# Altium footprint library WR-FPC_1.00mm.PcbLib: 115 footprints (part 4 of 8)
Each footprint in its own frame and in the unit in brackets; x right, y up, seen from the top. Pads: shape width x height; smd on the part's side, far side on the other; paste and mask are expansions set on the pad; w line width, h text height; cw(c..) or ccw(c..) is an arc to the next point about the centre after c.
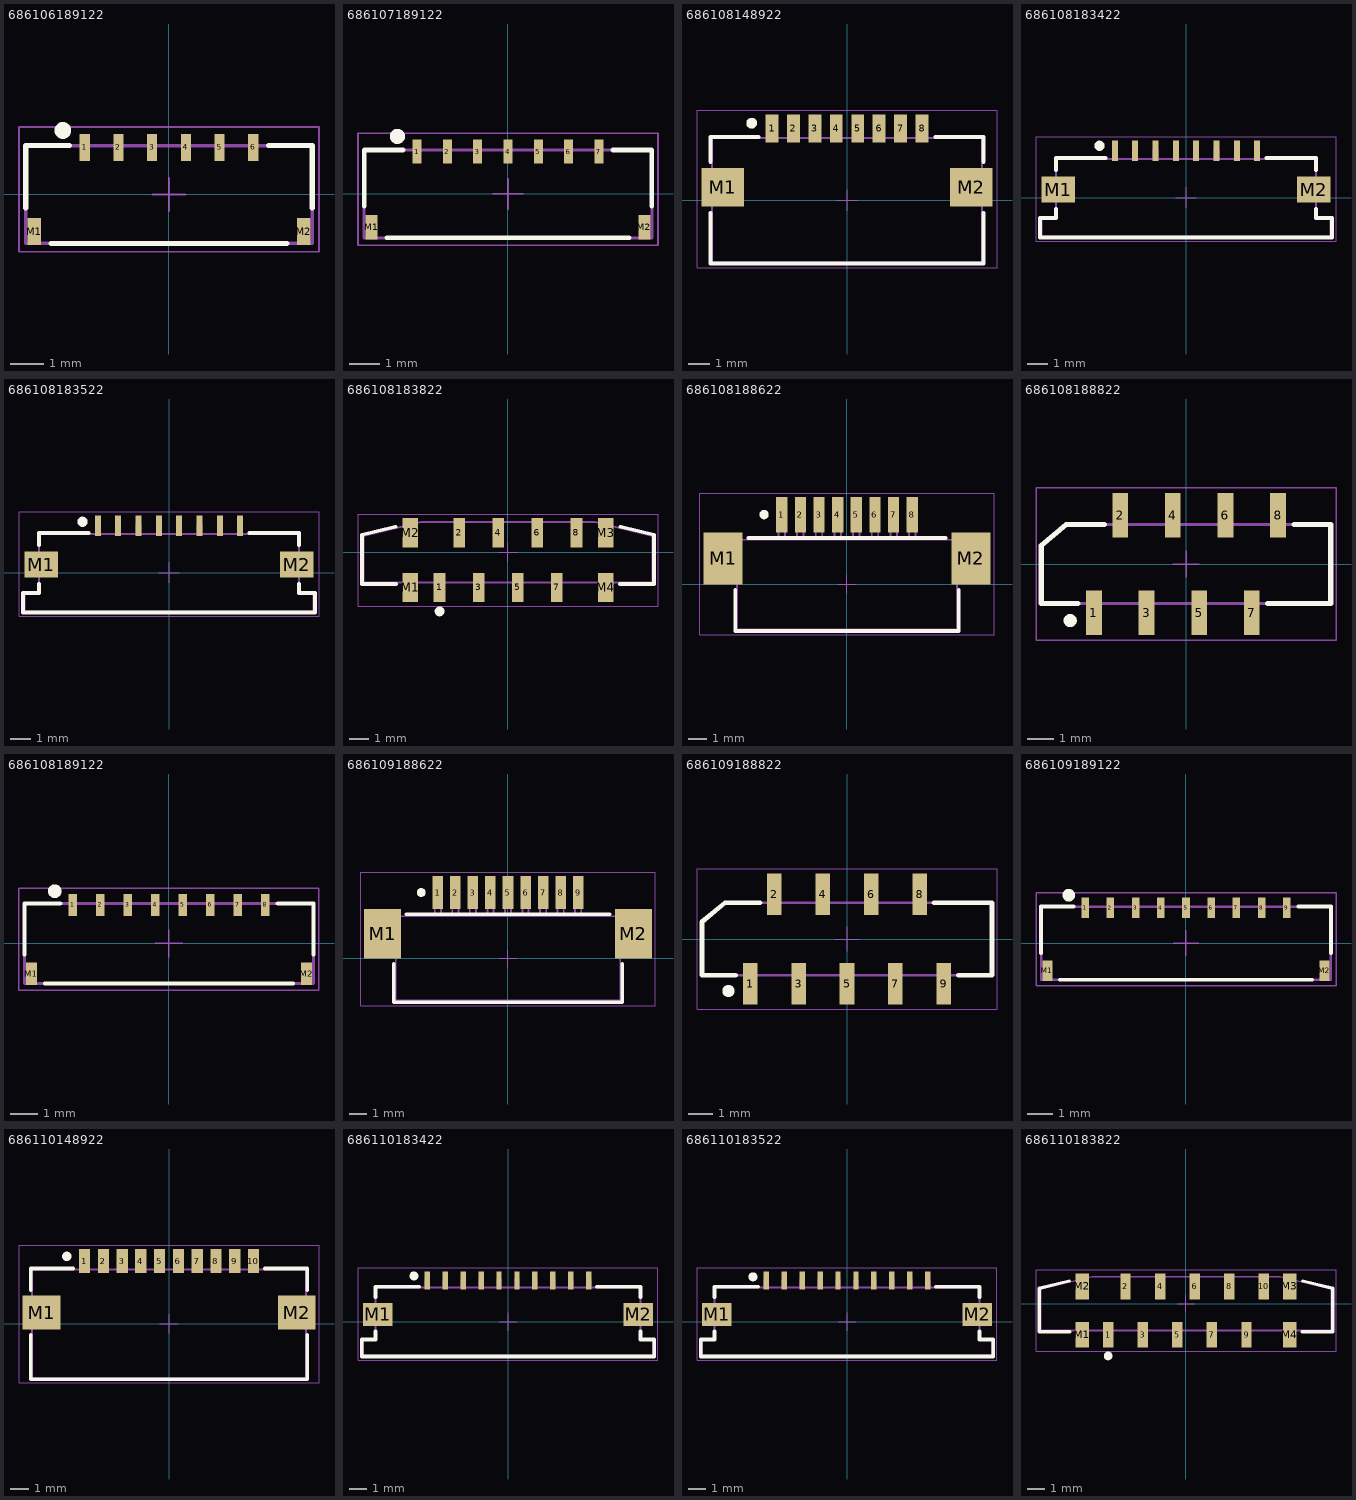
[diagram p3: the footprints below, top view; thin cyan lines are the x and y axes]

## 686106189122 [mm] "SMT ZIF Horizontal Back Locking 1mm, 6p"
height 0.96
pads (8):
  rect 0.3x0.8 smd: 1(-2.5,1.4) 2(-1.5,1.4) 3(-0.5,1.4) 4(0.5,1.4) 5(1.5,1.4) 6(2.5,1.4)
  rect 0.4x0.8 smd: M1(-4,-1.1) M2(4,-1.1)
Top Overlay:
  circle w0.25: c-3.15,1.9 r0.125
  lines w0.15: -4.25,-0.4 -4.25,1.45 -2.95,1.45 ; -3.5,-1.45 3.5,-1.45 ; 2.95,1.45 4.25,1.45 4.25,-0.4
Top Designator:
  text ".Designator" at -7.498,-0.5 h1.5
Top Component Outline:
  lines w0.1: -4.25,-1.45 -4.25,1.45 4.25,1.45 4.25,-1.45 -4.25,-1.45
Top 3D Body:
  lines w0.1: -4.25,-1.45 4.25,-1.45 4.25,1.45 -4.25,1.45 -4.25,-1.45
Top Courtyard:
  lines w0.05: -0.5,0 0.5,0 ; 0,-0.5 0,0.5 ; -4.45,-1.7 4.45,-1.7 4.45,2 -4.45,2 -4.45,-1.7
3D body "686106189122.stp": height 1.79, standoff 0.01, extent -4.25,-1.45 4.25,1.652

## 686107189122 [mm] "SMT ZIF Horizontal Back Locking 1mm, 7p"
height 0.96
pads (9):
  rect 0.3x0.8 smd: 1(-3,1.4) 2(-2,1.4) 3(-1,1.4) 4(0,1.4) 5(1,1.4) 6(2,1.4) 7(3,1.4)
  rect 0.4x0.8 smd: M1(-4.5,-1.1) M2(4.5,-1.1)
Top Overlay:
  circle w0.25: c-3.65,1.9 r0.125
  lines w0.15: -4.75,-0.4 -4.75,1.45 -3.45,1.45 ; -4,-1.45 4,-1.45 ; 3.45,1.45 4.75,1.45 4.75,-0.4
Top Designator:
  text ".Designator" at -7.498,-0.5 h1.5
Top Component Outline:
  lines w0.1: -4.75,-1.45 4.75,-1.45 4.75,1.45 -4.75,1.45 -4.75,-1.45
Top 3D Body:
  lines w0.1: -4.75,-1.45 -4.75,1.45 4.75,1.45 4.75,-1.45 -4.75,-1.45
Top Courtyard:
  lines w0.05: -0.5,0 0.5,0 ; 0,-0.5 0,0.5 ; -4.95,-1.7 -4.95,2 4.95,2 4.95,-1.7 -4.95,-1.7
3D body "686107189122.stp": height 1.79, standoff 0.01, extent -4.75,-1.45 4.75,1.652

## 686108148922 [mm] "ZIF Connectors, Horizontal, Bottom Contact Hinge Type, pitch 1mm, 8p"
height 2.3
pads (10):
  rect 0.6x1.3 smd: 1(-3.5,3.35) 2(-2.5,3.35) 3(-1.5,3.35) 4(-0.5,3.35) 5(0.5,3.35) 6(1.5,3.35) 7(2.5,3.35) 8(3.5,3.35)
  rect 2x1.8 smd: M1(-5.8,0.6) M2(5.8,0.6)
Top Overlay:
  circle w0.25: c-4.45,3.6 r0.125
  lines w0.2: -6.375,-0.6 -6.375,-2.95 6.375,-2.95 6.375,-0.6 ; -6.375,1.8 -6.375,2.95 -4.125,2.95 ; 4.125,2.95 6.375,2.95 6.375,1.8
Top Designator:
  text ".Designator" at -7.498,-0.5 h1.5
Top Component Outline:
  lines w0.1: -3.6,2.9 -3.6,3.6 -3.4,3.6 -3.4,2.9 ; -2.6,2.9 -2.6,3.6 -2.4,3.6 -2.4,2.9 ; -1.6,2.9 -1.6,3.6 -1.4,3.6 -1.4,2.9 ; -0.6,2.9 -0.6,3.6 -0.4,3.6 -0.4,2.9 ; 0.4,2.9 0.4,3.6 0.6,3.6 0.6,2.9 ; 1.4,2.9 1.4,3.6 1.6,3.6 1.6,2.9 ; 2.4,2.9 2.4,3.6 2.6,3.6 2.6,2.9 ; 3.4,2.9 3.4,3.6 3.6,3.6 3.6,2.9 ; -6.3,-2.9 -6.3,2.9 6.3,2.9 6.3,-2.9 -6.3,-2.9
Top 3D Body:
  lines w0.1: -3.6,2.9 -3.6,3.6 -3.4,3.6 -3.4,2.9 ; -2.6,2.9 -2.6,3.6 -2.4,3.6 -2.4,2.9 ; -1.6,2.9 -1.6,3.6 -1.4,3.6 -1.4,2.9 ; -0.6,2.9 -0.6,3.6 -0.4,3.6 -0.4,2.9 ; 0.4,2.9 0.4,3.6 0.6,3.6 0.6,2.9 ; 1.4,2.9 1.4,3.6 1.6,3.6 1.6,2.9 ; 2.4,2.9 2.4,3.6 2.6,3.6 2.6,2.9 ; 3.4,2.9 3.4,3.6 3.6,3.6 3.6,2.9 ; -6.3,-2.9 6.3,-2.9 6.3,2.9 -6.3,2.9 -6.3,-2.9
Top Courtyard:
  lines w0.05: -0.5,0 0.5,0 ; 0,-0.5 0,0.5 ; -7,-3.15 -7,4.2 7,4.2 7,-3.15 -7,-3.15
3D body "686108148922.stp": height 2.27, standoff 0.02, extent -6.3,-2.9 6.3,3.6

## 686108183422 [mm] "ZIF Connectors, Horizontal, Top Contact Low Profile, pitch 1mm, 8p"
height 1.3
pads (10):
  rect 0.3x1 smd: 1(-3.5,2.3) 2(-2.5,2.3) 3(-1.5,2.3) 4(-0.5,2.3) 5(0.5,2.3) 6(1.5,2.3) 7(2.5,2.3) 8(3.5,2.3)
  rect 1.65x1.3 smd: M1(-6.275,0.4) M2(6.275,0.4)
Top Overlay:
  circle w0.25: c-4.25,2.55 r0.125
  lines w0.2: -6.4,-0.55 -6.4,-1 -7.175,-1 -7.175,-1.95 7.175,-1.95 7.175,-1 6.4,-1 6.4,-0.55 ; -6.4,1.35 -6.4,1.95 -3.95,1.95 ; 3.95,1.95 6.4,1.95 6.4,1.35
Top Designator:
  text ".Designator" at -7.498,-0.5 h1.5
Top Component Outline:
  lines w0.1: -3.6,1.9 -3.6,2.35 -3.4,2.35 -3.4,1.9 ; -2.6,1.9 -2.6,2.35 -2.4,2.35 -2.4,1.9 ; -1.6,1.9 -1.6,2.35 -1.4,2.35 -1.4,1.9 ; -0.6,1.9 -0.6,2.35 -0.4,2.35 -0.4,1.9 ; 0.4,1.9 0.4,2.35 0.6,2.35 0.6,1.9 ; 1.4,1.9 1.4,2.35 1.6,2.35 1.6,1.9 ; 2.4,1.9 2.4,2.35 2.6,2.35 2.6,1.9 ; 3.4,1.9 3.4,2.35 3.6,2.35 3.6,1.9 ; -7.1,-1 -6.4,-1 -6.4,1.9 6.4,1.9 6.4,-1 7.1,-1 7.1,-1.9 -7.1,-1.9 -7.1,-1 ; -7.1,-1 -7.1,-1
Top 3D Body:
  lines w0.1: -3.6,1.9 -3.6,2.35 -3.4,2.35 -3.4,1.9 ; -2.6,1.9 -2.6,2.35 -2.4,2.35 -2.4,1.9 ; -1.6,1.9 -1.6,2.35 -1.4,2.35 -1.4,1.9 ; -0.6,1.9 -0.6,2.35 -0.4,2.35 -0.4,1.9 ; 0.4,1.9 0.4,2.35 0.6,2.35 0.6,1.9 ; 1.4,1.9 1.4,2.35 1.6,2.35 1.6,1.9 ; 2.4,1.9 2.4,2.35 2.6,2.35 2.6,1.9 ; 3.4,1.9 3.4,2.35 3.6,2.35 3.6,1.9 ; -7.1,-1 -7.1,-1.9 7.1,-1.9 7.1,-1 6.4,-1 6.4,1.9 -6.4,1.9 -6.4,-1 -7.1,-1 ; -7.1,-1 -7.1,-1
Top Courtyard:
  lines w0.05: -0.5,0 0.5,0 ; 0,-0.5 0,0.5 ; -7.375,-2.15 7.375,-2.15 7.375,3 -7.375,3 -7.375,-2.15
3D body "686108183422.stp": height 1.28, standoff -0.01, extent -7.1,-1.9 7.1,2.35

## 686108183522 [mm] "ZIF Connectors, Horizontal, Bottom Contact Low Profile, pitch 1mm, 8p"
height 1.3
pads (10):
  rect 0.3x1 smd: 1(-3.5,2.3) 2(-2.5,2.3) 3(-1.5,2.3) 4(-0.5,2.3) 5(0.5,2.3) 6(1.5,2.3) 7(2.5,2.3) 8(3.5,2.3)
  rect 1.65x1.3 smd: M1(-6.275,0.4) M2(6.275,0.4)
Top Overlay:
  circle w0.25: c-4.25,2.5 r0.125
  lines w0.2: -6.4,-0.55 -6.4,-1 -7.175,-1 -7.175,-1.95 7.175,-1.95 7.175,-1 6.4,-1 6.4,-0.55 ; -6.4,1.35 -6.4,1.95 -3.95,1.95 ; 3.95,1.95 6.4,1.95 6.4,1.35
Top Designator:
  text ".Designator" at -7.498,-0.5 h1.5
Top Component Outline:
  lines w0.1: -3.6,1.9 -3.6,2.35 -3.4,2.35 -3.4,1.9 ; -2.6,1.9 -2.6,2.35 -2.4,2.35 -2.4,1.9 ; -1.6,1.9 -1.6,2.35 -1.4,2.35 -1.4,1.9 ; -0.6,1.9 -0.6,2.35 -0.4,2.35 -0.4,1.9 ; 0.4,1.9 0.4,2.35 0.6,2.35 0.6,1.9 ; 1.4,1.9 1.4,2.35 1.6,2.35 1.6,1.9 ; 2.4,1.9 2.4,2.35 2.6,2.35 2.6,1.9 ; 3.4,1.9 3.4,2.35 3.6,2.35 3.6,1.9 ; -7.1,-1 -7.1,-1.9 7.1,-1.9 7.1,-1 6.4,-1 6.4,1.9 -6.4,1.9 -6.4,-1 -7.1,-1 ; -7.1,-1 -7.1,-1
Top 3D Body:
  lines w0.1: -3.6,1.9 -3.6,2.35 -3.4,2.35 -3.4,1.9 ; -2.6,1.9 -2.6,2.35 -2.4,2.35 -2.4,1.9 ; -1.6,1.9 -1.6,2.35 -1.4,2.35 -1.4,1.9 ; -0.6,1.9 -0.6,2.35 -0.4,2.35 -0.4,1.9 ; 0.4,1.9 0.4,2.35 0.6,2.35 0.6,1.9 ; 1.4,1.9 1.4,2.35 1.6,2.35 1.6,1.9 ; 2.4,1.9 2.4,2.35 2.6,2.35 2.6,1.9 ; 3.4,1.9 3.4,2.35 3.6,2.35 3.6,1.9 ; -7.1,-1 -6.4,-1 -6.4,1.9 6.4,1.9 6.4,-1 7.1,-1 7.1,-1.9 -7.1,-1.9 -7.1,-1 ; -7.1,-1 -7.1,-1
Top Courtyard:
  lines w0.05: -0.5,0 0.5,0 ; 0,-0.5 0,0.5 ; -7.375,-2.15 -7.375,3 7.375,3 7.375,-2.15 -7.375,-2.15
3D body "686108183522.stp": height 1.24, standoff -0.01, extent -7.1,-1.9 7.1,2.35

## 686108183822 [mm] "ZIF Connectors, Vertical, Type A, pitch 1mm, 8p"
height 4
pads (12):
  rect 0.6x1.5 smd: 1(-3.5,-1.8) 2(-2.5,1) 3(-1.5,-1.8) 4(-0.5,1) 5(0.5,-1.8) 6(1.5,1) 7(2.5,-1.8) 8(3.5,1)
  rect 0.8x1.5 smd: M1(-5,-1.8) M2(-5,1) M3(5,1) M4(5,-1.8)
Top Overlay:
  circle w0.25: c-3.5,-3.025 r0.125
  lines w0.2: -5.765,1.308 -7.475,0.897 -7.475,-1.625 -5.725,-1.625 ; 5.725,-1.625 7.475,-1.625 7.475,0.897 5.765,1.308
Top Designator:
  text ".Designator" at -7.498,-0.5 h1.5
Top Component Outline:
  lines w0.1: -5.2,-1.55 -5.2,-2.05 -4.8,-2.05 -4.8,-1.55 ; -3.6,-1.55 -3.6,-2.05 -3.4,-2.05 -3.4,-1.55 ; -1.6,-1.55 -1.6,-2.05 -1.4,-2.05 -1.4,-1.55 ; 0.4,-1.55 0.4,-2.05 0.6,-2.05 0.6,-1.55 ; 2.4,-1.55 2.4,-2.05 2.6,-2.05 2.6,-1.55 ; 4.8,-1.55 4.8,-2.05 5.2,-2.05 5.2,-1.55 ; -7.4,-1.55 7.4,-1.55 7.4,0.84 4.45,1.549 -4.45,1.55 -7.4,0.84 -7.4,-1.55
Top 3D Body:
  lines w0.1: -5.2,-1.55 -5.2,-2.05 -4.8,-2.05 -4.8,-1.55 ; -3.6,-1.55 -3.6,-2.05 -3.4,-2.05 -3.4,-1.55 ; -1.6,-1.55 -1.6,-2.05 -1.4,-2.05 -1.4,-1.55 ; 0.4,-1.55 0.4,-2.05 0.6,-2.05 0.6,-1.55 ; 2.4,-1.55 2.4,-2.05 2.6,-2.05 2.6,-1.55 ; 4.8,-1.55 4.8,-2.05 5.2,-2.05 5.2,-1.55 ; -7.4,-1.55 -7.4,0.84 -4.45,1.549 4.45,1.55 7.4,0.84 7.4,-1.55 -7.4,-1.55
Top Courtyard:
  lines w0.05: -0.5,0 0.5,0 ; 0,-0.5 0,0.5 ; -7.675,-2.75 7.675,-2.75 7.675,1.95 -7.675,1.95 -7.675,-2.75
3D body "686108183822.stp": height 4, standoff -0.02, extent -7.4,-2.05 7.4,1.55

## 686108188622 [mm] "LIF Connectors, Horizontal, Top Contact, pitch 1mm, 8p"
height 3.1
pads (10):
  rect 0.6x1.9 smd: 1(-3.5,3.75) 2(-2.5,3.75) 3(-1.5,3.75) 4(-0.5,3.75) 5(0.5,3.75) 6(1.5,3.75) 7(2.5,3.75) 8(3.5,3.75)
  rect 2.1x2.8 smd: M1(-6.65,1.4) M2(6.65,1.4)
Top Overlay:
  circle w0.25: c-4.45,3.75 r0.125
  lines w0.2: -6,-0.3 -6,-2.5 6,-2.5 6,-0.3 ; -5.3,2.5 5.3,2.5
Top Designator:
  text ".Designator" at -7.498,-0.5 h1.5
Top Component Outline:
  lines w0.1: -3.675,2.4 -3.675,4.4 -3.325,4.4 -3.325,2.4 ; -2.675,2.4 -2.675,4.4 -2.325,4.4 -2.325,2.4 ; -1.675,2.4 -1.675,4.4 -1.325,4.4 -1.325,2.4 ; -0.675,2.4 -0.675,4.4 -0.325,4.4 -0.325,2.4 ; 0.325,2.4 0.325,4.4 0.675,4.4 0.675,2.4 ; 1.325,2.4 1.325,4.4 1.675,4.4 1.675,2.4 ; 2.325,2.4 2.325,4.4 2.675,4.4 2.675,2.4 ; 3.325,2.4 3.325,4.4 3.675,4.4 3.675,2.4 ; -7.15,0.4 -5.9,0.4 -5.9,-2.4 5.9,-2.4 5.9,0.4 7.15,0.4 7.15,2.4 -7.15,2.4 -7.15,0.4
Top 3D Body:
  lines w0.1: -3.675,2.4 -3.675,4.4 -3.325,4.4 -3.325,2.4 ; -2.675,2.4 -2.675,4.4 -2.325,4.4 -2.325,2.4 ; -1.675,2.4 -1.675,4.4 -1.325,4.4 -1.325,2.4 ; -0.675,2.4 -0.675,4.4 -0.325,4.4 -0.325,2.4 ; 0.325,2.4 0.325,4.4 0.675,4.4 0.675,2.4 ; 1.325,2.4 1.325,4.4 1.675,4.4 1.675,2.4 ; 2.325,2.4 2.325,4.4 2.675,4.4 2.675,2.4 ; 3.325,2.4 3.325,4.4 3.675,4.4 3.675,2.4 ; -7.15,0.4 -7.15,2.4 7.15,2.4 7.15,0.4 5.9,0.4 5.9,-2.4 -5.9,-2.4 -5.9,0.4 -7.15,0.4
Top Courtyard:
  lines w0.05: -0.5,0 0.5,0 ; 0,-0.5 0,0.5 ; -7.9,-2.7 7.9,-2.7 7.9,4.9 -7.9,4.9 -7.9,-2.7
3D body "686108188622.stp": height 3.1, standoff -0.01, extent -7.15,-2.4 7.15,4.4

## 686108188822 [mm] "LIF Connectors, Vertical Type A,  pitch 1mm, 8p"
height 5.1
pads (8):
  rect 0.6x1.7 smd: 1(-3.5,-1.85) 2(-2.5,1.85) 3(-1.5,-1.85) 4(-0.5,1.85) 5(0.5,-1.85) 6(1.5,1.85) 7(2.5,-1.85) 8(3.5,1.85)
Top Overlay:
  circle w0.25: c-4.4,-2.15 r0.125
  lines w0.2: -4.1,-1.5 -5.5,-1.5 -5.5,0.7 -4.547,1.5 -3.1,1.5 ; 3.1,-1.5 5.5,-1.5 5.5,1.5 4.1,1.5
Top Designator:
  text ".Designator" at -7.498,-0.5 h1.5
Top Component Outline:
  lines w0.1: -3.675,-1.5 -3.675,-2.2 -3.325,-2.2 -3.325,-1.5 ; -2.675,1.5 -2.675,2.2 -2.325,2.2 -2.325,1.5 ; -1.675,-1.5 -1.675,-2.2 -1.325,-2.2 -1.325,-1.5 ; -0.675,1.5 -0.675,2.2 -0.325,2.2 -0.325,1.5 ; 0.325,-1.5 0.325,-2.2 0.675,-2.2 0.675,-1.5 ; 1.325,1.5 1.325,2.2 1.675,2.2 1.675,1.5 ; 2.325,-1.5 2.325,-2.2 2.675,-2.2 2.675,-1.5 ; 3.325,1.5 3.325,2.2 3.675,2.2 3.675,1.5 ; -5.5,-1.5 -5.5,0.7 -4.547,1.5 5.5,1.5 5.5,-1.5 -5.5,-1.5
Top 3D Body:
  lines w0.1: -3.675,-1.5 -3.675,-2.2 -3.325,-2.2 -3.325,-1.5 ; -2.675,1.5 -2.675,2.2 -2.325,2.2 -2.325,1.5 ; -1.675,-1.5 -1.675,-2.2 -1.325,-2.2 -1.325,-1.5 ; -0.675,1.5 -0.675,2.2 -0.325,2.2 -0.325,1.5 ; 0.325,-1.5 0.325,-2.2 0.675,-2.2 0.675,-1.5 ; 1.325,1.5 1.325,2.2 1.675,2.2 1.675,1.5 ; 2.325,-1.5 2.325,-2.2 2.675,-2.2 2.675,-1.5 ; 3.325,1.5 3.325,2.2 3.675,2.2 3.675,1.5 ; -5.5,-1.5 5.5,-1.5 5.5,1.5 -4.547,1.5 -5.5,0.7 -5.5,-1.5
Top Courtyard:
  lines w0.05: -0.5,0 0.5,0 ; 0,-0.5 0,0.5 ; -5.7,-2.9 -5.7,2.9 5.7,2.9 5.7,-2.9 -5.7,-2.9
3D body "686108188822.stp": height 5.21, standoff 0.01, extent -5.5,-2.2 5.5,2.2

## 686108189122 [mm] "SMT ZIF Horizontal Back Locking 1mm, 8p"
height 0.96
pads (10):
  rect 0.3x0.8 smd: 1(-3.5,1.4) 2(-2.5,1.4) 3(-1.5,1.4) 4(-0.5,1.4) 5(0.5,1.4) 6(1.5,1.4) 7(2.5,1.4) 8(3.5,1.4)
  rect 0.4x0.8 smd: M1(-5,-1.1) M2(5,-1.1)
Top Overlay:
  circle w0.25: c-4.15,1.9 r0.125
  lines w0.15: -5.25,-0.4 -5.25,1.45 -3.95,1.45 ; -4.5,-1.45 4.5,-1.45 ; 3.95,1.45 5.25,1.45 5.25,-0.4
Top Designator:
  text ".Designator" at -7.498,-0.5 h1.5
Top Component Outline:
  lines w0.1: -5.25,-1.45 5.25,-1.45 5.25,1.45 -5.25,1.45 -5.25,-1.45
Top 3D Body:
  lines w0.1: -5.25,-1.45 -5.25,1.45 5.25,1.45 5.25,-1.45 -5.25,-1.45
Top Courtyard:
  lines w0.05: -0.5,0 0.5,0 ; 0,-0.5 0,0.5 ; -5.45,-1.7 -5.45,2 5.45,2 5.45,-1.7 -5.45,-1.7
3D body "686108189122.stp": height 1.79, standoff 0.01, extent -5.25,-1.45 5.25,1.652

## 686109188622 [mm] "LIF Connectors, Horizontal, Top Contact, pitch 1mm, 9p"
height 3.1
pads (11):
  rect 0.6x1.9 smd: 1(-4,3.75) 2(-3,3.75) 3(-2,3.75) 4(-1,3.75) 5(0,3.75) 6(1,3.75) 7(2,3.75) 8(3,3.75) 9(4,3.75)
  rect 2.1x2.8 smd: M1(-7.15,1.4) M2(7.15,1.4)
Top Overlay:
  circle w0.25: c-4.95,3.75 r0.125
  lines w0.2: -6.5,-0.3 -6.5,-2.5 6.5,-2.5 6.5,-0.3 ; -5.8,2.5 5.8,2.5
Top Designator:
  text ".Designator" at -7.498,-0.5 h1.5
Top Component Outline:
  lines w0.1: -4.175,2.4 -4.175,4.4 -3.825,4.4 -3.825,2.4 ; -3.175,2.4 -3.175,4.4 -2.825,4.4 -2.825,2.4 ; -2.175,2.4 -2.175,4.4 -1.825,4.4 -1.825,2.4 ; -1.175,2.4 -1.175,4.4 -0.825,4.4 -0.825,2.4 ; -0.175,2.4 -0.175,4.4 0.175,4.4 0.175,2.4 ; 0.825,2.4 0.825,4.4 1.175,4.4 1.175,2.4 ; 1.825,2.4 1.825,4.4 2.175,4.4 2.175,2.4 ; 2.825,2.4 2.825,4.4 3.175,4.4 3.175,2.4 ; 3.825,2.4 3.825,4.4 4.175,4.4 4.175,2.4 ; -7.65,0.4 -6.4,0.4 -6.4,-2.4 6.4,-2.4 6.4,0.4 7.65,0.4 7.65,2.4 -7.65,2.4 -7.65,0.4
Top 3D Body:
  lines w0.1: -4.175,2.4 -4.175,4.4 -3.825,4.4 -3.825,2.4 ; -3.175,2.4 -3.175,4.4 -2.825,4.4 -2.825,2.4 ; -2.175,2.4 -2.175,4.4 -1.825,4.4 -1.825,2.4 ; -1.175,2.4 -1.175,4.4 -0.825,4.4 -0.825,2.4 ; -0.175,2.4 -0.175,4.4 0.175,4.4 0.175,2.4 ; 0.825,2.4 0.825,4.4 1.175,4.4 1.175,2.4 ; 1.825,2.4 1.825,4.4 2.175,4.4 2.175,2.4 ; 2.825,2.4 2.825,4.4 3.175,4.4 3.175,2.4 ; 3.825,2.4 3.825,4.4 4.175,4.4 4.175,2.4 ; -7.65,0.4 -7.65,2.4 7.65,2.4 7.65,0.4 6.4,0.4 6.4,-2.4 -6.4,-2.4 -6.4,0.4 -7.65,0.4
Top Courtyard:
  lines w0.05: -0.5,0 0.5,0 ; 0,-0.5 0,0.5 ; -8.4,-2.7 8.4,-2.7 8.4,4.9 -8.4,4.9 -8.4,-2.7
3D body "686109188622.stp": height 3.1, standoff -0.01, extent -7.65,-2.4 7.65,4.4

## 686109188822 [mm] "LIF Connectors, Vertical Type A,  pitch 1mm, 9p"
height 5.1
pads (9):
  rect 0.6x1.7 smd: 1(-4,-1.85) 2(-3,1.85) 3(-2,-1.85) 4(-1,1.85) 5(0,-1.85) 6(1,1.85) 7(2,-1.85) 8(3,1.85) 9(4,-1.85)
Top Overlay:
  circle w0.25: c-4.9,-2.15 r0.125
  lines w0.2: -4.6,-1.5 -6,-1.5 -6,0.7 -5.047,1.5 -3.6,1.5 ; 3.6,1.5 6,1.5 6,-1.5 4.6,-1.5
Top Designator:
  text ".Designator" at -7.498,-0.5 h1.5
Top Component Outline:
  lines w0.1: -4.175,-1.5 -4.175,-2.2 -3.825,-2.2 -3.825,-1.5 ; -3.175,1.5 -3.175,2.2 -2.825,2.2 -2.825,1.5 ; -2.175,-1.5 -2.175,-2.2 -1.825,-2.2 -1.825,-1.5 ; -1.175,1.5 -1.175,2.2 -0.825,2.2 -0.825,1.5 ; -0.175,-1.5 -0.175,-2.2 0.175,-2.2 0.175,-1.5 ; 0.825,1.5 0.825,2.2 1.175,2.2 1.175,1.5 ; 1.825,-1.5 1.825,-2.2 2.175,-2.2 2.175,-1.5 ; 2.825,1.5 2.825,2.2 3.175,2.2 3.175,1.5 ; 3.825,-1.5 3.825,-2.2 4.175,-2.2 4.175,-1.5 ; -6,-1.5 -6,0.7 -5.047,1.5 6,1.5 6,-1.5 -6,-1.5
Top 3D Body:
  lines w0.1: -4.175,-1.5 -4.175,-2.2 -3.825,-2.2 -3.825,-1.5 ; -3.175,1.5 -3.175,2.2 -2.825,2.2 -2.825,1.5 ; -2.175,-1.5 -2.175,-2.2 -1.825,-2.2 -1.825,-1.5 ; -1.175,1.5 -1.175,2.2 -0.825,2.2 -0.825,1.5 ; -0.175,-1.5 -0.175,-2.2 0.175,-2.2 0.175,-1.5 ; 0.825,1.5 0.825,2.2 1.175,2.2 1.175,1.5 ; 1.825,-1.5 1.825,-2.2 2.175,-2.2 2.175,-1.5 ; 2.825,1.5 2.825,2.2 3.175,2.2 3.175,1.5 ; 3.825,-1.5 3.825,-2.2 4.175,-2.2 4.175,-1.5 ; -6,-1.5 6,-1.5 6,1.5 -5.047,1.5 -6,0.7 -6,-1.5
Top Courtyard:
  lines w0.05: -0.5,0 0.5,0 ; 0,-0.5 0,0.5 ; -6.2,-2.9 -6.2,2.9 6.2,2.9 6.2,-2.9 -6.2,-2.9
3D body "686109188822.stp": height 5.21, standoff 0.01, extent -6,-2.2 6,2.2

## 686109189122 [mm] "SMT ZIF Horizontal Back Locking 1mm, 9p"
height 0.96
pads (11):
  rect 0.3x0.8 smd: 1(-4,1.4) 2(-3,1.4) 3(-2,1.4) 4(-1,1.4) 5(0,1.4) 6(1,1.4) 7(2,1.4) 8(3,1.4) 9(4,1.4)
  rect 0.4x0.8 smd: M1(-5.5,-1.1) M2(5.5,-1.1)
Top Overlay:
  circle w0.25: c-4.65,1.9 r0.125
  lines w0.15: -5.75,-0.4 -5.75,1.45 -4.45,1.45 ; -5,-1.45 5,-1.45 ; 4.45,1.45 5.75,1.45 5.75,-0.4
Top Designator:
  text ".Designator" at -7.498,-0.5 h1.5
Top Component Outline:
  lines w0.1: -5.75,-1.45 -5.75,1.45 5.75,1.45 5.75,-1.45 -5.75,-1.45
Top 3D Body:
  lines w0.1: -5.75,-1.45 5.75,-1.45 5.75,1.45 -5.75,1.45 -5.75,-1.45
Top Courtyard:
  lines w0.05: -0.5,0 0.5,0 ; 0,-0.5 0,0.5 ; -5.95,-1.7 5.95,-1.7 5.95,2 -5.95,2 -5.95,-1.7
3D body "686109189122.stp": height 1.79, standoff 0.01, extent -5.75,-1.45 5.75,1.652

## 686110148922 [mm] "ZIF Connectors, Horizontal, Bottom Contact Hinge Type, pitch 1mm, 10p"
height 2.3
pads (12):
  rect 0.6x1.3 smd: 1(-4.5,3.35) 2(-3.5,3.35) 3(-2.5,3.35) 4(-1.5,3.35) 5(-0.5,3.35) 6(0.5,3.35) 7(1.5,3.35) 8(2.5,3.35) 9(3.5,3.35) 10(4.5,3.35)
  rect 2x1.8 smd: M1(-6.8,0.6) M2(6.8,0.6)
Top Overlay:
  circle w0.25: c-5.45,3.6 r0.125
  lines w0.2: -7.375,-0.6 -7.375,-2.95 7.375,-2.95 7.375,-0.6 ; -7.375,1.8 -7.375,2.95 -5.125,2.95 ; 5.125,2.95 7.375,2.95 7.375,1.8
Top Designator:
  text ".Designator" at -7.498,-0.5 h1.5
Top Component Outline:
  lines w0.1: -4.6,2.9 -4.6,3.6 -4.4,3.6 -4.4,2.9 ; -3.6,2.9 -3.6,3.6 -3.4,3.6 -3.4,2.9 ; -2.6,2.9 -2.6,3.6 -2.4,3.6 -2.4,2.9 ; -1.6,2.9 -1.6,3.6 -1.4,3.6 -1.4,2.9 ; -0.6,2.9 -0.6,3.6 -0.4,3.6 -0.4,2.9 ; 0.4,2.9 0.4,3.6 0.6,3.6 0.6,2.9 ; 1.4,2.9 1.4,3.6 1.6,3.6 1.6,2.9 ; 2.4,2.9 2.4,3.6 2.6,3.6 2.6,2.9 ; 3.4,2.9 3.4,3.6 3.6,3.6 3.6,2.9 ; 4.4,2.9 4.4,3.6 4.6,3.6 4.6,2.9 ; -7.3,-2.9 7.3,-2.9 7.3,2.9 -7.3,2.9 -7.3,-2.9
Top 3D Body:
  lines w0.1: -4.6,2.9 -4.6,3.6 -4.4,3.6 -4.4,2.9 ; -3.6,2.9 -3.6,3.6 -3.4,3.6 -3.4,2.9 ; -2.6,2.9 -2.6,3.6 -2.4,3.6 -2.4,2.9 ; -1.6,2.9 -1.6,3.6 -1.4,3.6 -1.4,2.9 ; -0.6,2.9 -0.6,3.6 -0.4,3.6 -0.4,2.9 ; 0.4,2.9 0.4,3.6 0.6,3.6 0.6,2.9 ; 1.4,2.9 1.4,3.6 1.6,3.6 1.6,2.9 ; 2.4,2.9 2.4,3.6 2.6,3.6 2.6,2.9 ; 3.4,2.9 3.4,3.6 3.6,3.6 3.6,2.9 ; 4.4,2.9 4.4,3.6 4.6,3.6 4.6,2.9 ; -7.3,-2.9 -7.3,2.9 7.3,2.9 7.3,-2.9 -7.3,-2.9
Top Courtyard:
  lines w0.05: -0.5,0 0.5,0 ; 0,-0.5 0,0.5 ; -8,-3.15 8,-3.15 8,4.2 -8,4.2 -8,-3.15
3D body "686110148922.stp": height 2.27, standoff 0.02, extent -7.3,-2.9 7.3,3.6

## 686110183422 [mm] "ZIF Connectors, Horizontal, Top Contact Low Profile, pitch 1mm, 10p"
height 1.3
pads (12):
  rect 0.3x1 smd: 1(-4.5,2.3) 2(-3.5,2.3) 3(-2.5,2.3) 4(-1.5,2.3) 5(-0.5,2.3) 6(0.5,2.3) 7(1.5,2.3) 8(2.5,2.3) 9(3.5,2.3) 10(4.5,2.3)
  rect 1.65x1.3 smd: M1(-7.275,0.4) M2(7.275,0.4)
Top Overlay:
  circle w0.25: c-5.25,2.55 r0.125
  lines w0.2: -7.4,-0.55 -7.4,-1 -8.175,-1 -8.175,-1.95 8.175,-1.95 8.175,-1 7.4,-1 7.4,-0.55 ; -7.4,1.35 -7.4,1.95 -4.95,1.95 ; 4.95,1.95 7.4,1.95 7.4,1.35
Top Designator:
  text ".Designator" at -7.498,-0.5 h1.5
Top Component Outline:
  lines w0.1: -4.6,1.9 -4.6,2.35 -4.4,2.35 -4.4,1.9 ; -3.6,1.9 -3.6,2.35 -3.4,2.35 -3.4,1.9 ; -2.6,1.9 -2.6,2.35 -2.4,2.35 -2.4,1.9 ; -1.6,1.9 -1.6,2.35 -1.4,2.35 -1.4,1.9 ; -0.6,1.9 -0.6,2.35 -0.4,2.35 -0.4,1.9 ; 0.4,1.9 0.4,2.35 0.6,2.35 0.6,1.9 ; 1.4,1.9 1.4,2.35 1.6,2.35 1.6,1.9 ; 2.4,1.9 2.4,2.35 2.6,2.35 2.6,1.9 ; 3.4,1.9 3.4,2.35 3.6,2.35 3.6,1.9 ; 4.4,1.9 4.4,2.35 4.6,2.35 4.6,1.9 ; -8.1,-1 -7.4,-1 -7.4,1.9 7.4,1.9 7.4,-1 8.1,-1 8.1,-1.9 -8.1,-1.9 -8.1,-1 ; -8.1,-1 -8.1,-1
Top 3D Body:
  lines w0.1: -4.6,1.9 -4.6,2.35 -4.4,2.35 -4.4,1.9 ; -3.6,1.9 -3.6,2.35 -3.4,2.35 -3.4,1.9 ; -2.6,1.9 -2.6,2.35 -2.4,2.35 -2.4,1.9 ; -1.6,1.9 -1.6,2.35 -1.4,2.35 -1.4,1.9 ; -0.6,1.9 -0.6,2.35 -0.4,2.35 -0.4,1.9 ; 0.4,1.9 0.4,2.35 0.6,2.35 0.6,1.9 ; 1.4,1.9 1.4,2.35 1.6,2.35 1.6,1.9 ; 2.4,1.9 2.4,2.35 2.6,2.35 2.6,1.9 ; 3.4,1.9 3.4,2.35 3.6,2.35 3.6,1.9 ; 4.4,1.9 4.4,2.35 4.6,2.35 4.6,1.9 ; -8.1,-1 -8.1,-1.9 8.1,-1.9 8.1,-1 7.4,-1 7.4,1.9 -7.4,1.9 -7.4,-1 -8.1,-1 ; -8.1,-1 -8.1,-1
Top Courtyard:
  lines w0.05: -0.5,0 0.5,0 ; 0,-0.5 0,0.5 ; -8.375,-2.15 8.375,-2.15 8.375,3 -8.375,3 -8.375,-2.15
3D body "686110183422.stp": height 1.28, standoff -0.01, extent -8.1,-1.9 8.1,2.35

## 686110183522 [mm] "ZIF Connectors, Horizontal, Bottom Contact Low Profile, pitch 1mm, 10p"
height 1.3
pads (12):
  rect 0.3x1 smd: 1(-4.5,2.3) 2(-3.5,2.3) 3(-2.5,2.3) 4(-1.5,2.3) 5(-0.5,2.3) 6(0.5,2.3) 7(1.5,2.3) 8(2.5,2.3) 9(3.5,2.3) 10(4.5,2.3)
  rect 1.65x1.3 smd: M1(-7.275,0.4) M2(7.275,0.4)
Top Overlay:
  circle w0.25: c-5.25,2.5 r0.125
  lines w0.2: -7.4,-0.55 -7.4,-1 -8.175,-1 -8.175,-1.95 8.175,-1.95 8.175,-1 7.4,-1 7.4,-0.55 ; -7.4,1.35 -7.4,1.95 -4.95,1.95 ; 4.95,1.95 7.4,1.95 7.4,1.35
Top Designator:
  text ".Designator" at -7.498,-0.5 h1.5
Top Component Outline:
  lines w0.1: -4.6,1.9 -4.6,2.35 -4.4,2.35 -4.4,1.9 ; -3.6,1.9 -3.6,2.35 -3.4,2.35 -3.4,1.9 ; -2.6,1.9 -2.6,2.35 -2.4,2.35 -2.4,1.9 ; -1.6,1.9 -1.6,2.35 -1.4,2.35 -1.4,1.9 ; -0.6,1.9 -0.6,2.35 -0.4,2.35 -0.4,1.9 ; 0.4,1.9 0.4,2.35 0.6,2.35 0.6,1.9 ; 1.4,1.9 1.4,2.35 1.6,2.35 1.6,1.9 ; 2.4,1.9 2.4,2.35 2.6,2.35 2.6,1.9 ; 3.4,1.9 3.4,2.35 3.6,2.35 3.6,1.9 ; 4.4,1.9 4.4,2.35 4.6,2.35 4.6,1.9 ; -8.1,-1 -7.4,-1 -7.4,1.9 7.4,1.9 7.4,-1 8.1,-1 8.1,-1.9 -8.1,-1.9 -8.1,-1 ; -8.1,-1 -8.1,-1
Top 3D Body:
  lines w0.1: -4.6,1.9 -4.6,2.35 -4.4,2.35 -4.4,1.9 ; -3.6,1.9 -3.6,2.35 -3.4,2.35 -3.4,1.9 ; -2.6,1.9 -2.6,2.35 -2.4,2.35 -2.4,1.9 ; -1.6,1.9 -1.6,2.35 -1.4,2.35 -1.4,1.9 ; -0.6,1.9 -0.6,2.35 -0.4,2.35 -0.4,1.9 ; 0.4,1.9 0.4,2.35 0.6,2.35 0.6,1.9 ; 1.4,1.9 1.4,2.35 1.6,2.35 1.6,1.9 ; 2.4,1.9 2.4,2.35 2.6,2.35 2.6,1.9 ; 3.4,1.9 3.4,2.35 3.6,2.35 3.6,1.9 ; 4.4,1.9 4.4,2.35 4.6,2.35 4.6,1.9 ; -8.1,-1 -8.1,-1.9 8.1,-1.9 8.1,-1 7.4,-1 7.4,1.9 -7.4,1.9 -7.4,-1 -8.1,-1 ; -8.1,-1 -8.1,-1
Top Courtyard:
  lines w0.05: -0.5,0 0.5,0 ; 0,-0.5 0,0.5 ; -8.375,-2.15 8.375,-2.15 8.375,3 -8.375,3 -8.375,-2.15
3D body "686110183522.stp": height 1.24, standoff -0.01, extent -8.1,-1.9 8.1,2.35

## 686110183822 [mm] "ZIF Connectors, Vertical, Type A, pitch 1mm, 10p"
height 4
pads (14):
  rect 0.6x1.5 smd: 1(-4.5,-1.8) 2(-3.5,1) 3(-2.5,-1.8) 4(-1.5,1) 5(-0.5,-1.8) 6(0.5,1) 7(1.5,-1.8) 8(2.5,1) 9(3.5,-1.8) 10(4.5,1)
  rect 0.8x1.5 smd: M1(-6,-1.8) M2(-6,1) M3(6,1) M4(6,-1.8)
Top Overlay:
  circle w0.25: c-4.5,-3.025 r0.125
  lines w0.2: -6.765,1.308 -8.475,0.897 -8.475,-1.625 -6.725,-1.625 ; 6.725,-1.625 8.475,-1.625 8.475,0.897 6.765,1.308
Top Designator:
  text ".Designator" at -7.498,-0.5 h1.5
Top Component Outline:
  lines w0.1: -6.2,-1.55 -6.2,-2.05 -5.8,-2.05 -5.8,-1.55 ; -4.6,-1.55 -4.6,-2.05 -4.4,-2.05 -4.4,-1.55 ; -2.6,-1.55 -2.6,-2.05 -2.4,-2.05 -2.4,-1.55 ; -0.6,-1.55 -0.6,-2.05 -0.4,-2.05 -0.4,-1.55 ; 1.4,-1.55 1.4,-2.05 1.6,-2.05 1.6,-1.55 ; 3.4,-1.55 3.4,-2.05 3.6,-2.05 3.6,-1.55 ; 5.8,-1.55 5.8,-2.05 6.2,-2.05 6.2,-1.55 ; -8.4,-1.55 8.4,-1.55 8.4,0.84 5.45,1.549 -5.45,1.55 -8.4,0.84 -8.4,-1.55
Top 3D Body:
  lines w0.1: -6.2,-1.55 -6.2,-2.05 -5.8,-2.05 -5.8,-1.55 ; -4.6,-1.55 -4.6,-2.05 -4.4,-2.05 -4.4,-1.55 ; -2.6,-1.55 -2.6,-2.05 -2.4,-2.05 -2.4,-1.55 ; -0.6,-1.55 -0.6,-2.05 -0.4,-2.05 -0.4,-1.55 ; 1.4,-1.55 1.4,-2.05 1.6,-2.05 1.6,-1.55 ; 3.4,-1.55 3.4,-2.05 3.6,-2.05 3.6,-1.55 ; 5.8,-1.55 5.8,-2.05 6.2,-2.05 6.2,-1.55 ; -8.4,-1.55 -8.4,0.84 -5.45,1.549 5.45,1.55 8.4,0.84 8.4,-1.55 -8.4,-1.55
Top Courtyard:
  lines w0.05: -0.5,0 0.5,0 ; 0,-0.5 0,0.5 ; -8.675,-2.75 8.675,-2.75 8.675,1.95 -8.675,1.95 -8.675,-2.75
3D body "686110183822.stp": height 4, standoff 0, extent -8.4,-2.05 8.4,1.55